# Altium footprint library bowtie.PcbLib: 37 footprints (part 2 of 3)
Each footprint in its own frame and in the unit in brackets; x right, y up, seen from the top. Pads: shape width x height; smd on the part's side, far side on the other; paste and mask are expansions set on the pad; w line width, h text height; cw(c..) or ccw(c..) is an arc to the next point about the centre after c.
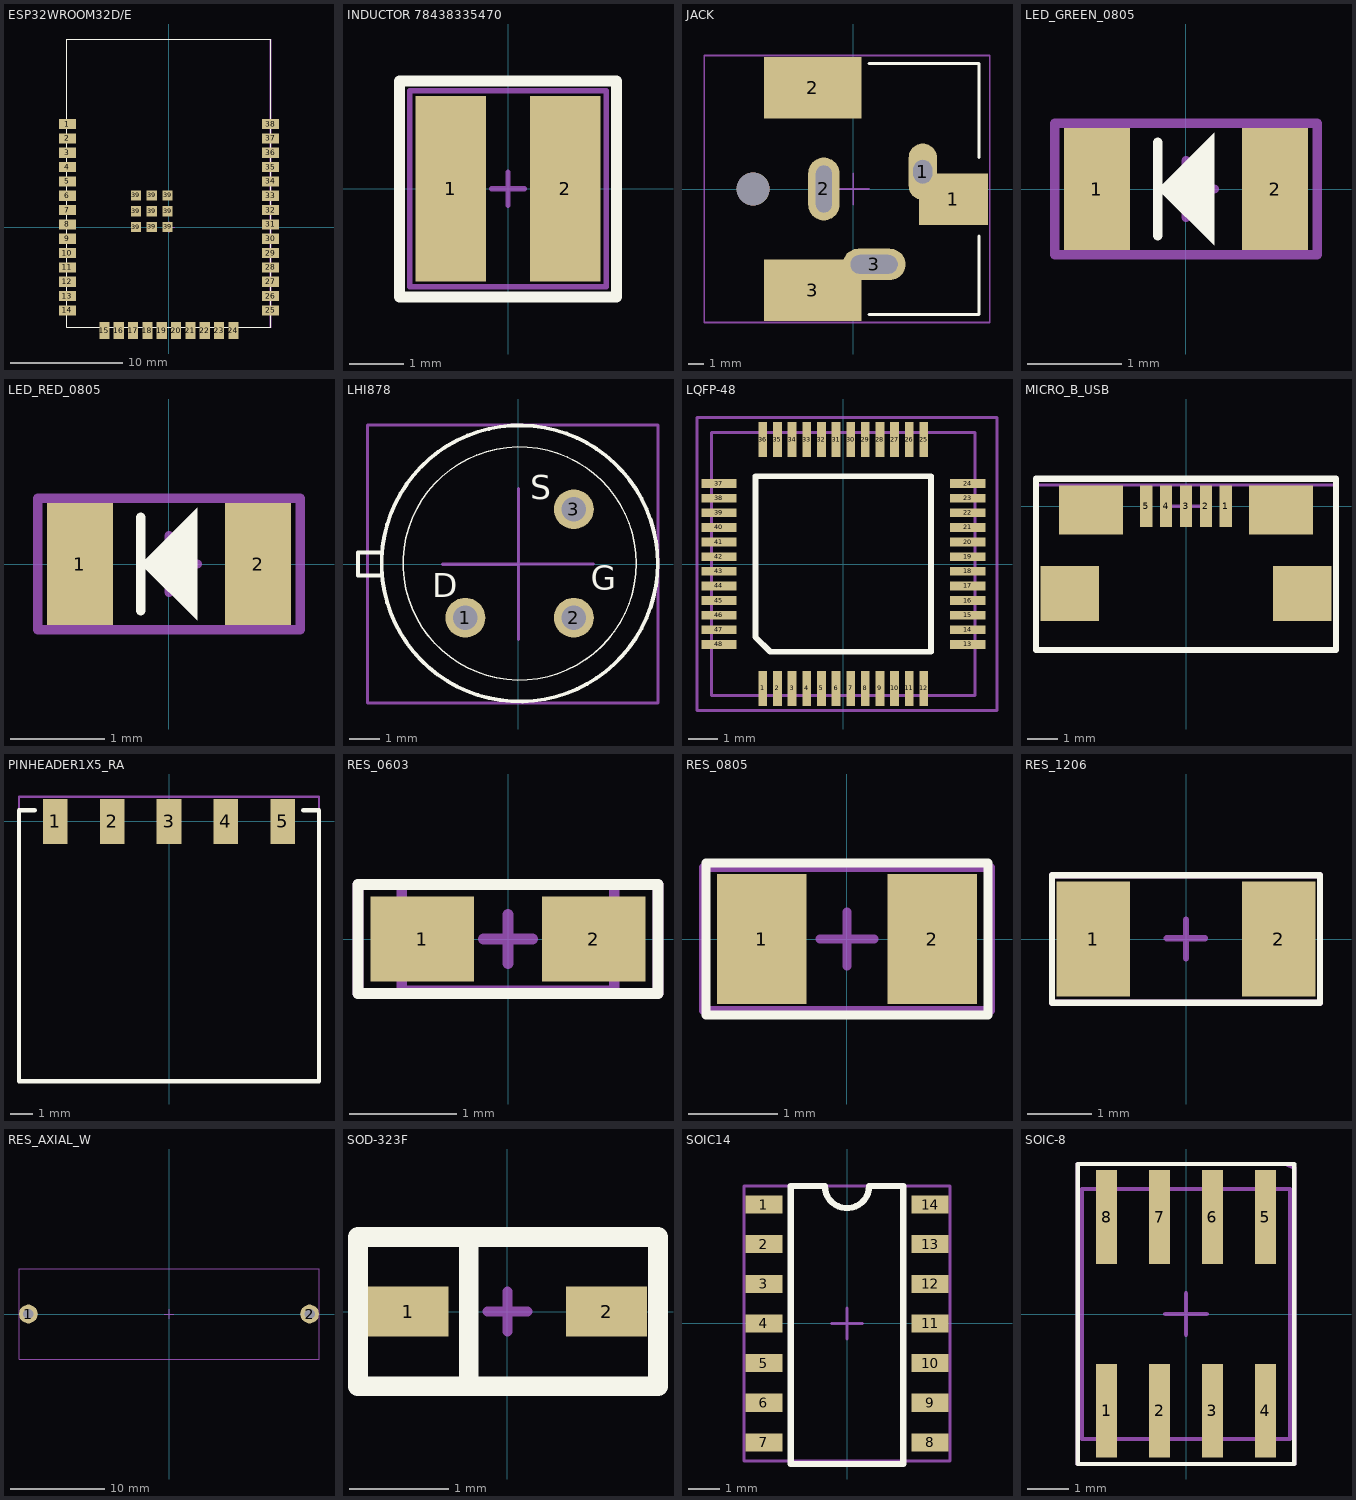
[diagram p1: the footprints below, top view; thin cyan lines are the x and y axes]

## ESP32WROOM32D/E [mm] "adam bence alt pinleri yanlış çizdi ben doğru çizdim bi bakmakta fayda var / pin39 aralında thler var bak ona"
pads (47):
  rect 1.5x0.9 smd paste-2539.97 mask+0.05: 1(-9,9.145) 2(-9,7.875) 3(-9,6.605) 4(-9,5.335) 5(-9,4.065) 6(-9,2.795) 7(-9,1.525) 8(-9,0.255) 9(-9,-1.015) 10(-9,-2.285) 11(-9,-3.555) 12(-9,-4.825) 13(-9,-6.095) 14(-9,-7.365) 25(9,-7.365) 26(9,-6.095) 27(9,-4.825) 28(9,-3.555) 29(9,-2.285) 30(9,-1.015) 31(9,0.255) 32(9,1.525) 33(9,2.795) 34(9,4.065) 35(9,5.335) 36(9,6.605) 37(9,7.875) 38(9,9.145)
  rect 0.9x1.5 smd paste-2539.97 mask+0.05: 15(-5.72,-9.145) 16(-4.45,-9.145) 17(-3.18,-9.145) 18(-1.91,-9.145) 19(-0.64,-9.145) 20(0.63,-9.145) 21(1.9,-9.145) 22(3.17,-9.145) 23(4.44,-9.145) 24(5.71,-9.145)
  rect 0.9x0.9 smd paste-2539.97 mask+0.05: 39(-2.925,0.02) 39(-2.925,1.42) 39(-2.925,2.82) 39(-1.525,0.025) 39(-1.525,1.425) 39(-1.525,2.82) 39(-0.125,0.025) 39(-0.125,1.425) 39(-0.125,2.825)
Top Overlay:
  lines w0.1: -9.075,-8.875 9.025,-8.875 9.025,16.675 -9.075,16.675 -9.075,-8.875
Top 3D Body:
  lines w0.1: -9.05,-8.85 -9.05,16.65 8.975,16.65 8.975,-8.85 -9.05,-8.85
Top Component Center:
  lines w0.1: 0.006,-0.497 0.006,0.503 0.006,0.003 -0.494,0.003 0.506,0.003 ; -9.075,-8.875 9.05,-8.875 9.05,16.675 -9.075,16.675 -9.075,-8.875
Top Designator:
  text ".Designator" at -2.996,6.887 h1.52
3D body "User Library-ESP32-WROOM-32E-1.STEP": height 3.15, standoff -0.02, extent -9.043,-8.875 8.993,16.643

## INDUCTOR 78438335470 [mm] "78438335470"
pads (2):
  rect 1.3x3.4 smd paste-2539.97 mask+0.05: 1(-1.05,0) 2(1.05,0)
Top Overlay:
  lines w0.2: -1.988,-1.982 -1.988,1.972 1.991,1.972 1.991,-1.982 -1.988,-1.982
Top Component Center:
  lines w0.1: -0.3,0 0.3,0 ; 0,-0.3 0,0.3 0,0 ; -1.8,-1.8 1.8,-1.8 1.8,1.8 -1.8,1.8 -1.8,-1.8
Top Designator:
  text ".Designator" at -1.25,-0.483 h0.8
3D body "78438335010_Download_STP_WE-MAIA-3015_rev1 (1).stp": height 1.2, standoff 0, extent -1.5,-1.5 1.5,1.5

## JACK [mm]
pads (7):
  oval 1.8x3.6 hole 1.2 slot 1.5 at 90 deg: 1(4.425,1.1)
  rect 4.4x3.3 smd: 1(6.375,-0.65)
  rect 6.2x3.9 smd: 2(-2.575,6.45) 3(-2.575,-6.45)
  oval 2x4 hole 1 slot 3 at 90 deg: 2(-1.875,0)
  oval 4x2 hole 1.2 slot 3 at 0 deg: 3(1.325,-4.8)
  round 2.1 hole 2.1 unplated: ""(-6.375,0)
Top Overlay:
  lines w0.2: 1,-8 8,-8 8,-3 ; 1,8 8,8 8,2
Top Component Center:
  lines w0.1: -1,0 1,0 ; 0,-1 0,1 ; -9.5,-8.5 8.7,-8.5 8.7,8.5 -6,8.5 -9.5,8.5 -9.5,-8.5
Top Designator:
  lines w0.1: -9.5,-8.5 8.7,-8.5 8.7,8.5 -6,8.5 -9.5,8.5 -9.5,-8.5
  text "'.Designator'" at -5.746,-0.238 h1.52
3D body "CUI_DEVICES_PJ-037AH-SMT-TR.step": height 11.1, standoff -3.3, extent -9.475,-7.75 7.625,7.45

## LED_GREEN_0805 [mm]
pads (2):
  rect 0.7x1.3 smd mask+0.05: 1(-0.95,0) 2(0.95,0)
Top Overlay:
  region: -0.3,0 0.3,0.6 0.3,-0.6
  lines w0.1: -0.3,-0.5 -0.3,0.5
Top Component Center:
  lines w0.1: -0.3,0 0.3,0 ; 0,-0.3 0,0.3 ; -1.4,-0.7 -1.4,0.7 1.4,0.7 1.4,-0.7 -1.4,-0.7
Top Designator:
  lines w0.1: -1.4,-0.7 -1.4,0.7 1.4,0.7 1.4,-0.7 -1.4,-0.7
  text ".Designator" at -1.25,-0.317 h0.7
3D body "SMD_0805LED_GREEN.STEP": height 1.1, standoff 0, extent -1.01,-0.625 1.01,0.625

## LED_RED_0805 [mm]
pads (2):
  rect 0.7x1.3 smd mask+0.05: 1(-0.95,0) 2(0.95,0)
Top Overlay:
  region: -0.3,0 0.3,0.6 0.3,-0.6
  lines w0.1: -0.3,-0.5 -0.3,0.5
Top Component Center:
  lines w0.1: -0.3,0 0.3,0 ; 0,-0.3 0,0.3 ; -1.4,-0.7 -1.4,0.7 1.4,0.7 1.4,-0.7 -1.4,-0.7
Top Designator:
  lines w0.1: -1.4,-0.7 -1.4,0.7 1.4,0.7 1.4,-0.7 -1.4,-0.7
  text ".Designator" at -0.85,-0.217 h0.7
3D body "SMD_0805LED_RED.STEP": height 1.1, standoff 0, extent -1.01,-0.625 1.01,0.625

## LHI878 [mil]
pads (3):
  round 52 hole 32: 1(-69.02,-70) 2(72.41,-70) 3(72.41,71.42)
Top Overlay:
  circle w2: c1.7,0.71 r152
  circle w5: c1.7,0.71 r180
  lines w5: -179.32,-14.85 -209.02,-14.85 -209.02,14.85 -179.32,14.85
  text "D" at -112.2,-43.31 h31.5
  text "G" at 94.49,-33.46 h31.5
  text "S" at 15.75,84.65 h31.5
Top 3D Body:
  lines w3.94: -196.85,-181.1 182.09,-181.1 182.09,181.1 -196.85,181.1 -196.85,-181.1
Top Component Center:
  lines w3.94: -98.59,-0.32 -0.17,-0.32 ; -0.46,-0.03 97.97,-0.03 ; 0,-98.43 0,0 0,98.43 ; -196.85,-181.1 -196.85,181.1 182.09,181.1 182.09,-181.1 -196.85,-181.1
Top Designator:
  text ".Designator" at -23.62,26.24 h31.5
3D body "User Library-LHI878.step": height 169.29, standoff -106.3, extent -197,-181.1 182.09,181.1

## LQFP-48 [mm] "7mmx7mm"
pads (48):
  rect 0.3x1.2 smd paste-2539.97 mask+0.05: 1(-2.75,-4.25) 2(-2.25,-4.25) 3(-1.75,-4.25) 4(-1.25,-4.25) 5(-0.75,-4.25) 6(-0.25,-4.25) 7(0.25,-4.25) 8(0.75,-4.25) 9(1.25,-4.25) 10(1.75,-4.25) 11(2.25,-4.25) 12(2.75,-4.25) 25(2.75,4.25) 26(2.25,4.25) 27(1.75,4.25) 28(1.25,4.25) 29(0.75,4.25) 30(0.25,4.25) 31(-0.25,4.25) 32(-0.75,4.25) 33(-1.25,4.25) 34(-1.75,4.25) 35(-2.25,4.25) 36(-2.75,4.25)
  rect 1.2x0.3 smd paste-2539.97 mask+0.05: 13(4.25,-2.75) 14(4.25,-2.25) 15(4.25,-1.75) 16(4.25,-1.25) 17(4.25,-0.75) 18(4.25,-0.25) 19(4.25,0.25) 20(4.25,0.75) 21(4.25,1.25) 22(4.25,1.75) 23(4.25,2.25) 24(4.25,2.75) 37(-4.25,2.75) 38(-4.25,2.25) 39(-4.25,1.75) 40(-4.25,1.25) 41(-4.25,0.75) 42(-4.25,0.25) 43(-4.25,-0.25) 44(-4.25,-0.75) 45(-4.25,-1.25) 46(-4.25,-1.75) 47(-4.25,-2.25) 48(-4.25,-2.75)
Top Overlay:
  lines w0.2: -3,-2.5 -3,3 3,3 3,-3 -2.5,-3 -3,-2.5
  text "." at -3.996,-3.996 h1.52
Top 3D Body:
  lines w0.1: -4.5,-4.5 -4.5,4.5 4.5,4.5 4.5,-4.5 -4.5,-4.5
  text "." at -3.746,-3.746 h1.52
Top Component Center:
  lines w0.1: -5,-5 5.25,-5 5.25,5 -3.25,5 -5,5 -5,-5
Top Designator:
  lines w0.1: -5,-5 5.25,-5 5.25,5 -5,5 -5,-5
  text ".Designator" at -1.368,-0.258 h1.52
3D body "User Library-LQFP48_Grid_0_5.STEP": height 1.6, standoff 0, extent -4.5,-4.5 4.5,4.5

## MICRO_B_USB [mm]
pads (9):
  rect 0.4x1.35 smd mask+0.05: 1(1.3,0) 2(0.65,0) 3(0,0) 4(-0.65,0) 5(-1.3,0)
  rect 1.9x1.8 smd mask+0.05: ""(-3.8,-2.85) ""(3.8,-2.85)
  rect 2.1x1.6 smd mask+0.05: ""(-3.1,-0.122) ""(3.1,-0.122)
Top Overlay:
  lines w0.2: -4.9,-4.7 -3.8,-4.7 4.9,-4.7 4.9,0.9 -4.9,0.9 -4.9,-4.7
Top Component Center:
  lines w0.1: -0.5,0 0.5,0 ; 0,-0.5 0,0.5 ; -4.9,-4.7 4.9,-4.7 4.9,0.7 -0.2,0.7 -4.9,0.7 -4.9,-4.7
Top Designator:
  lines w0.1: -4.9,-4.7 4.9,-4.7 4.9,0.7 -0.2,0.7 -4.9,0.7 -4.9,-4.7
  text "'.Designator'" at -3.146,-2.238 h1.52
3D body "10118192C.stp": height 2.79, standoff -0.22, extent -3.956,-5.461 3.956,0.2

## PINHEADER1X5_RA [mm]
pads (5):
  rect 1.1x2 smd mask+0.05: 1(-5.08,0) 2(-2.54,0) 3(0,0) 4(2.54,0) 5(5.08,0)
Top Overlay:
  lines w0.2: -6,0.5 -6.7,0.5 -6.7,-11.6 6.7,-11.6 6.7,0.5 6,0.5
Top Component Center:
  lines w0.1: -0.5,0 0.5,0 ; 0,-0.5 0,0.5 ; -6.7,-11.6 6.7,-11.6 6.7,1.1 -5.7,1.1 -6.7,1.1 -6.7,-11.6
Top Designator:
  lines w0.1: -6.7,-11.6 6.7,-11.6 6.7,1.1 -5.7,1.1 -6.7,1.1 -6.7,-11.6
  text ".Designator" at -4.346,-4.538 h1.52
3D body "SMH-105-02-L-S.stp": height 2.41, standoff -0.01, extent -6.604,-11.509 6.604,0.429

## RES_0603 [mil]
pads (2):
  rect 38x31 smd paste-99999 mask+1.97: 1(-31.5,0) 2(31.5,0)
Top Overlay:
  lines w3.94: -55,-20 -55,20 55,20 55,-20 -55,-20
Top 3D Body:
  lines w3.94: -39,-19 -39,20 39,20 39,-19 -39,-19
Top Component Center:
  lines w3.94: -9,0 9,0 ; 0,-9 0,9 ; -55,-20 -55,20 55,20 55,-20 -55,-20
Top Designator:
  text ".Designator" at -16.06,-9.5 h19.68
3D body "0603S1.STEP": height 17.68, standoff -0.04, extent -38.92,-19.68 38.92,18.88

## RES_0805 [mm]
pads (2):
  rect 1x1.45 smd paste-2539.97 mask+0.05: 1(-0.95,0) 2(0.95,0)
Top Overlay:
  lines w0.1: -1.575,-0.85 1.575,-0.85 1.575,0.85 -1.575,0.85 -1.575,-0.85
Top Component Center:
  lines w0.1: 0,-0.3 0,0.3 0,0 -0.3,0 0.3,0 ; -1.6,-0.8 -1.6,0.8 1.6,0.8 1.6,-0.8 -1.6,-0.8
Top Designator:
  text ".Designator" at -0.95,-0.383 h0.8
3D body "res0805.STEP": height 0.5, standoff 0, extent -1.249,-0.75 1.249,0.75

## RES_1206 [mm]
pads (2):
  rect 1.15x1.8 smd paste-2539.97 mask+0.05: 1(-1.45,0) 2(1.45,0)
Top Overlay:
  lines w0.1: -2.1,-1 -2.1,1 2.1,1 2.1,-1 -2.1,-1
Top Component Center:
  lines w0.1: -0.302,0.014 -0.002,0.014 0.298,0.014 ; 0,-0.3 0,0 0,0.3 ; -2.1,-1 -2.1,1 2.1,1 2.1,-1 -2.1,-1
Top Designator:
  lines w0.1: -2.1,-1 -2.1,1 2.1,1 2.1,-1 -2.1,-1
  text ".Designator" at -1.55,-0.283 h0.8
3D body "res1206r.STEP": height 0.55, standoff 0, extent -1.984,-0.938 1.984,0.938

## RES_AXIAL_W [mm]
pads (2):
  round 2 hole 1.1 mask+0.05: 1(-15,0) 2(15,0)
Top Component Center:
  lines w0.1: -0.5,0 0.5,0 ; 0,-0.5 0,0.5 ; -16,-4.8 -16,4.8 -10.8,4.8 16,4.8 16,-4.8 -16,-4.8
Top Designator:
  lines w0.1: -16,-4.8 -16,4.8 -10.8,4.8 16,4.8 16,-4.8 -16,-4.8
  text "'.Designator'" at -4.946,-0.438 h1.52
3D body: height 5, standoff -4, extent 14.6,-0.399 15.397,0.399
3D body: height 5.2, standoff 4.4, extent 6.3,-0.398 15.3,0.398
3D body: height 5, standoff -4, extent -15.397,-0.399 -14.6,0.399
3D body: height 5.2, standoff 4.4, extent -15.3,-0.398 -6.3,0.398
3D body: height 9.65, standoff 0, extent -11,-4.825 11,4.825

## SOD-323F [mm]
pads (2):
  rect 0.81x0.5 smd paste-2539.97 mask+0.05: 1(-0.995,0) 2(0.995,0)
Top Overlay:
  lines w0.2: -0.388,-0.743 -0.388,0.7 ; -1.5,-0.75 1.512,-0.75 1.512,0.75 -1.5,0.75 -1.5,-0.75
Top Component Center:
  lines w0.1: -0.2,0 0,0 ; 0,-0.2 0,0 ; 0,0.2 0,0 ; 0.2,0 0,0 ; -1.5,-0.8 -1.5,0.7 1.5,0.7 1.5,-0.8 -1.5,-0.8
Top Designator:
  text ".Designator" at -1.35,-0.283 h0.8
3D body "User Library-SOD323F-1.step": height 1, standoff 0, extent -1.25,-0.675 1.25,0.675

## SOIC14 [mm]
pads (14):
  rect 1.18x0.58 smd mask+0.05: 1(-2.66,3.81) 2(-2.66,2.54) 3(-2.66,1.27) 4(-2.66,0) 5(-2.66,-1.27) 6(-2.66,-2.54) 7(-2.66,-3.81) 8(2.66,-3.81) 9(2.66,-2.54) 10(2.66,-1.27) 11(2.66,0) 12(2.66,1.27) 13(2.66,2.54) 14(2.66,3.81)
Top Overlay:
  lines w0.2: -1.8,-4.5 1.8,-4.5 1.8,4.4 0.707,4.4 cw(c0,4.4) -0.707,4.4 -1.8,4.4 -1.8,-4.5
Top Component Center:
  lines w0.1: -0.5,0 0.5,0 ; 0,-0.5 0,0.5 ; -3.3,-4.4 -3.3,4.4 3.3,4.4 3.3,-4.4 -3.3,-4.4
Top Designator:
  lines w0.1: -3.3,-4.4 3.3,-4.4 3.3,4.4 -3.3,4.4 -3.3,-4.4
  text ".Designator" at -1.246,-0.038 h1.52
3D body "User Library-so14-1.step": height 1.7, standoff 0, extent -3,-4.4 3,4.4

## SOIC-8 [mm]
pads (8):
  rect 0.5x2.25 smd paste-2539.97 mask+0.05: 1(-1.905,-2.325) 2(-0.635,-2.325) 3(0.635,-2.325) 4(1.905,-2.325) 5(1.905,2.325) 6(0.635,2.325) 7(-0.635,2.325) 8(-1.905,2.325)
Top Overlay:
  lines w0.1: -2.6,-3.6 2.6,-3.6 2.6,3.6 -2.6,3.6 -2.6,-3.6
  text "." at -2.9,-3.8 h0.7
Top 3D Body:
  lines w0.1: -2.5,-3 2.5,-3 2.5,3 -2.5,3 -2.5,-3
  text "." at -2.3,-2.7 h0.7
Top Component Center:
  lines w0.1: -0.5,0 0,0 ; 0,-0.5 0,0 ; 0,0.5 0,0 ; 0.5,0 0,0 ; -2.6,-3.6 2.6,-3.6 2.6,3.504 2.4,3.6 -2.6,3.6 -2.6,-3.6
Top Designator:
  text ".Designator" at -1.146,-0.838 h1.52
3D body "User Library-SOIC-8-1.STEP": height 1.7, standoff -0.05, extent -2.45,-3 2.45,3